# Altium integrated library Mechanical.IntLib: 44 symbols
Pins are listed as number, name and electrical type; pins without a type are passive.

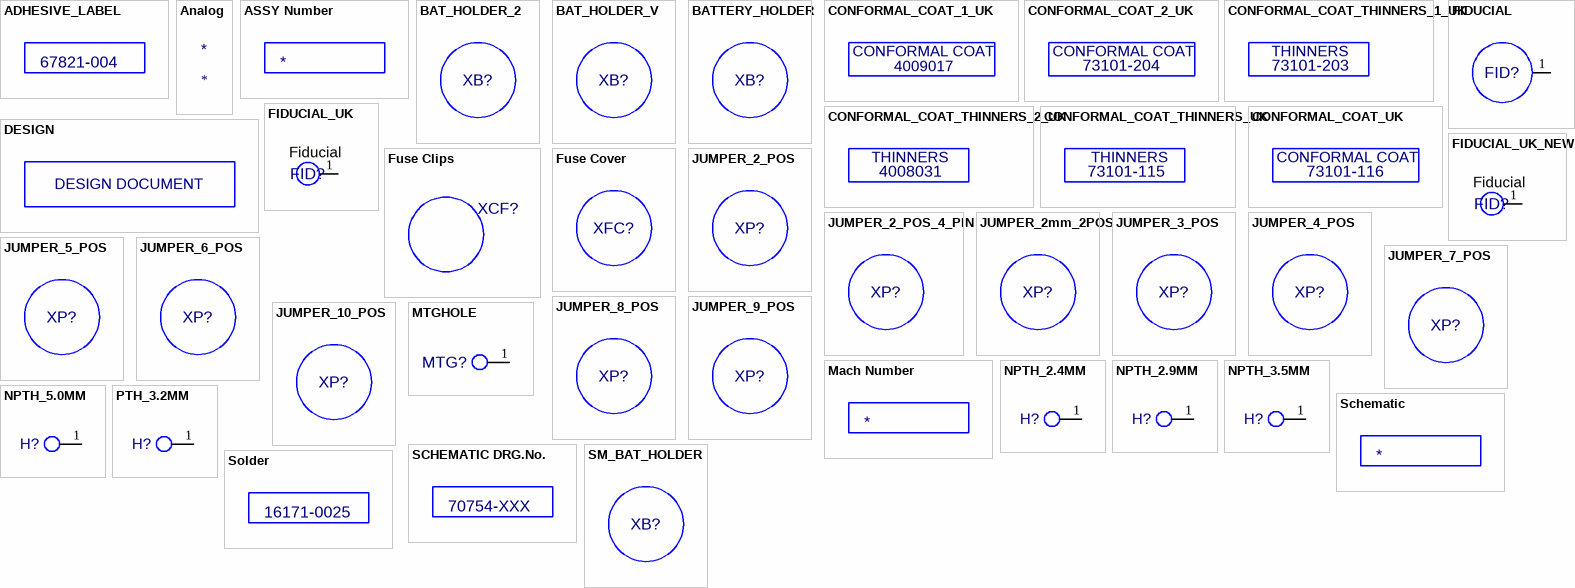
[diagram p0: symbols ADHESIVE_LABEL to Solder]

## ADHESIVE_LABEL
designator ASSY, comment 67821-004  (mechanical)
ADHESIVE LABEL; ECAD_Revision: 1; Librarian: UK; Item: *; Value: *; PartNumber: 67821-004

## Analog
designator *
ECAD_Revision: 1; Librarian: US
footprint Analog

## ASSY Number
designator ASSY  (mechanical)
PC Board ASSY,; ECAD_Revision: 1; Librarian: US; Item: *; Value: *; PartNumber: *

## BAT_HOLDER_2
designator XB?, comment AWT25-500104  (value not drawn)  (mechanical)
Holder Coin Cell 20mm DIA; ECAD_Revision: 2; Librarian: US; PartNumber: AWT25-500104; Item: *; HelpURL: K:\ACCELEDA\PDF Spec Files\MISS\; Value: *
footprint BAT_HOLDER_2

## BAT_HOLDER_V
designator XB?, comment TMP_US_BAT_HOLDER_V  (value not drawn)  (mechanical)
Battery, Holder; ECAD_Revision: 1; Librarian: US; PartNumber: TMP_US_BAT_HOLDER_V; Item: *; HelpURL: K:\ACCELEDA\PDF Spec Files\Battery\bk-5058.pdf; Value: *
footprint BAT_HOLDER_V (Memory Device BK-5058)

## BATTERY_HOLDER
designator XB?, comment 60112-0017  (value not drawn)
Battery, Holder; ECAD_Revision: 1; Librarian: US; PartNumber: 60112-0017; Item: *; HelpURL: K:\ACCELEDA\PDF Spec Files\MISS\cr2032-bhl2.pdf; Value: *
footprint BATTERY_HOLDER

## CONFORMAL_COAT_1_UK
designator Solder, comment value CONFORMAL COAT  (hidden comment: 4009017)  (mechanical)
CONFORMAL COAT, HUMISEAL X-1136; ECAD_Revision: 1; Librarian: UK; Item: *; PartNumber: 4009017

## CONFORMAL_COAT_2_UK
designator Solder, comment value CONFORMAL COAT  (hidden comment: 73101-204)  (mechanical)
CONFORMAL COAT, HUMISEAL X-1136, ATEX PT2 of 2; ECAD_Revision: 1; Librarian: UK; Item: *; PartNumber: 73101-204

## CONFORMAL_COAT_THINNERS_1_UK
designator Solder, comment value THINNERS  (hidden comment: 73101-203)  (mechanical)
CONFORMAL COAT THINNERS, ATEX PT2 of 2; ECAD_Revision: 1; Librarian: UK; Item: *; PartNumber: 73101-203

## CONFORMAL_COAT_THINNERS_2_UK
designator Solder, comment value THINNERS  (hidden comment: 4008031)  (mechanical)
CONFORMAL COAT THINNERS; ECAD_Revision: 1; Librarian: UK; Item: *; PartNumber: 4008031

## CONFORMAL_COAT_THINNERS_UK
designator Solder, comment value THINNERS  (hidden comment: 73101-115)  (mechanical)
CONFORMAL COAT THINNERS, ATEX PT1 of 2; ECAD_Revision: 1; Librarian: UK; Item: *; PartNumber: 73101-115

## CONFORMAL_COAT_UK
designator Solder, comment value CONFORMAL COAT  (hidden comment: 73101-116)  (mechanical)
CONFORMAL COAT, HUMISEAL X-1136, ATEX PT1 of 2; ECAD_Revision: 1; Librarian: UK; Item: *; PartNumber: 73101-116

## DESIGN
designator DOC?  (graphical)
DESIGN; ECAD_Revision: 1; Librarian: US; HelpURL: K:\ACCELEDA\Design Document\
text: DESIGN DOCUMENT

## FIDUCIAL
designator FID?  (value not drawn)  (no BOM)
FIDUCIAL; ECAD_Revision: 2; Librarian: UK; Item: *; Value: *; PartNumber: *
footprint FIDUCIAL
pins: 1

## FIDUCIAL_UK
designator FID?  (value not drawn)  (no BOM)
FIDUCIAL FOR UK BOARDS; ECAD_Revision: 1; Item: *; Value: *; PartNumber: *; Librarian: UK
footprint FIDUCIAL_AP (Fiducial as per AP-3-5057)
pins: 1
text: Fiducial

## FIDUCIAL_UK_NEW
designator FID?  (value not drawn)  (no BOM)
FIDUCIAL FOR UK BOARDS; ECAD_Revision: 1; Item: *; Value: *; PartNumber: *; Librarian: UK
footprint FIDUCIAL_AP_NEW (Fiducial as per AP-3-5057. Rev. 1)
pins: 1
text: Fiducial

## Fuse Clips
designator XCF?, comment 17723-0018  (value not drawn)  (mechanical)
Fuse, Clip 3AG .25 DIA; ECAD_Revision: 1; Librarian: US; Value: need two; PartNumber: 17723-0018; Item: *; Power Rating: 3AG

## Fuse Cover
designator XFC?, comment 22350-0018  (value not drawn)  (mechanical)
Cover, Fuse .25 x 1.25 Fuse; PartNumber: 22350-0018; Item: *; HelpURL: K:\ACCELEDA\PDF Spec Files\MISS\; Value: *
footprint Fuse Cover (Cover for .25 x 1.25 fuse)

## JUMPER_2_POS
designator XP?, comment 18015-0013  (value not drawn)  (mechanical)
Jumper, 2 Position Shunt; ECAD_Revision: 1; Librarian: US; PartNumber: 18015-0013; Item: *; Value: *
footprint JUMPER_2_POS

## JUMPER_2_POS_4_PIN
designator XP?, comment 52601-0012  (value not drawn)  (mechanical)
Jumper, 2 Position Shunt; ECAD_Revision: 1; Librarian: US; PartNumber: 52601-0012; Item: *; Value: *
footprint JUMPER_2_POS_4_PIN

## JUMPER_2mm_2POS
designator XP?, comment AWT25-500173  (value not drawn)  (mechanical)
Jumper, 2mm 2 Position Shunt; ECAD_Revision: 1; Librarian: US; PartNumber: AWT25-500173; Item: *; Value: *
footprint JUMPER_2mm_2POS

## JUMPER_3_POS
designator XP?, comment 52601-0020  (value not drawn)  (mechanical)
Jumper, 3 Position Shunt; ECAD_Revision: 1; Librarian: US; PartNumber: 52601-0020; Item: *; Value: *
footprint JUMPER_3_POS

## JUMPER_4_POS
designator XP?, comment 52601-0038  (value not drawn)  (mechanical)
Jumper, 4 Position Shunt; ECAD_Revision: 1; Librarian: US; PartNumber: 52601-0038; Item: *; Value: *
footprint JUMPER_4_POS

## JUMPER_5_POS
designator XP?, comment 52601-0046  (value not drawn)  (mechanical)
Jumper, 5 Position Shunt; ECAD_Revision: 1; Librarian: US; PartNumber: 52601-0046; Item: *; Value: *
footprint JUMPER_5_POS

## JUMPER_6_POS
designator XP?, comment 52601-0053  (value not drawn)  (mechanical)
Jumper, 6 Position Shunt; ECAD_Revision: 1; Librarian: US; PartNumber: 52601-0053; Item: *; Value: *
footprint JUMPER_6_POS

## JUMPER_7_POS
designator XP?, comment 52601-0061  (value not drawn)  (mechanical)
Jumper, 7 Position Shunt; ECAD_Revision: 1; Librarian: US; PartNumber: 52601-0061; Item: *; Value: *
footprint JUMPER_7_POS

## JUMPER_8_POS
designator XP?, comment 52601-0079  (value not drawn)  (mechanical)
Jumper, 8 Position Shunt; ECAD_Revision: 1; Librarian: US; PartNumber: 52601-0079; Item: *; Value: *
footprint JUMPER_8_POS

## JUMPER_9_POS
designator XP?, comment 52601-0087  (value not drawn)  (mechanical)
Jumper, 9 Position Shunt; ECAD_Revision: 1; Librarian: US; PartNumber: 52601-0087; Item: *; Value: *
footprint JUMPER_9_POS

## JUMPER_10_POS
designator XP?, comment 52601-0095  (value not drawn)  (mechanical)
Jumper, 10 Position Shunt; ECAD_Revision: 1; Librarian: US; PartNumber: 52601-0095; Item: *; Value: *
footprint JUMPER_10_POS

## Mach Number
designator MACH  (mechanical)
PC Board Machiniing,; ECAD_Revision: 1; Librarian: US; Item: *; Value: *; PartNumber: *

## MTGHOLE
designator MTG?  (value not drawn)  (no BOM)
MTGHOLE; ECAD_Revision: 2; Librarian: UK; Power Rating: *; Item: *; Value: *; PartNumber: *
footprint MTGHOLE
pins: 1

## NPTH_2.4MM
designator H?, comment none  (value not drawn)  (no BOM)
Plated mounting hole for M2 thread; ECAD_Revision: 1; Librarian: UK; Item: *; Value: *; PartNumber: none
footprint NPTH_2.4mm (Mounting Hole. Rev.1)
pins: 1

## NPTH_2.9MM
designator H?, comment none  (value not drawn)  (no BOM)
Plated mounting hole for M2.5 thread; ECAD_Revision: 1; Librarian: UK; Item: *; Value: *; PartNumber: none
footprint NPTH_2.9mm (Mounting Hole. Rev.1)
pins: 1

## NPTH_3.5MM
designator H?, comment none  (value not drawn)  (no BOM)
Non-plated mounting hole for M3 thread; ECAD_Revision: 2; Librarian: UK; Item: *; Value: *; PartNumber: none
footprint NPTH_3_5MM (Mounting Hole. Rev.2)
pins: 1

## NPTH_5.0MM
designator H?, comment none  (value not drawn)  (no BOM)
Non-Plated mounting hole 5mm diameter; ECAD_Revision: 1; Librarian: UK; Item: *; Value: *; PartNumber: none
footprint NPTH_5.0mm (Mounting Hole 5mm Rev.1)
pins: 1

## PTH_3.2MM
designator H?, comment none  (value not drawn)  (no BOM)
Plated mounting hole for M3 thread; ECAD_Revision: 1; Librarian: UK; Item: *; Value: *; PartNumber: none
footprint PTH_3.2mm (Mounting Hole. Rev.1)
pins: 1

## Schematic
designator SCH  (mechanical)
Schematic,; ECAD_Revision: 1; Librarian: US; Item: *; Value: *; PartNumber: *

## SCHEMATIC DRG.No.
designator SCM, comment 70754-XXX  (mechanical)
REMOVED APPROPRIATE DRG. Nos.; ECAD_Revision: 1; Librarian: UK; Item: *; Value: *; PartNumber: 70754-XXX

## SM_BAT_HOLDER
designator XB?, comment 60112-0025  (value not drawn)  (mechanical)
Battery, Holder; ECAD_Revision: 1; Librarian: US; PartNumber: 60112-0025; Item: *; HelpURL: K:\ACCELEDA\PDF Spec Files\MISS\bu2032sm-hd.pdf; Value: *
footprint SM_BAT_HOLDER

## Solder
designator Solder, comment 16171-0025  (mechanical)
Solder; ECAD_Revision: 1; Librarian: US; Item: *; Value: *; PartNumber: 16171-0025

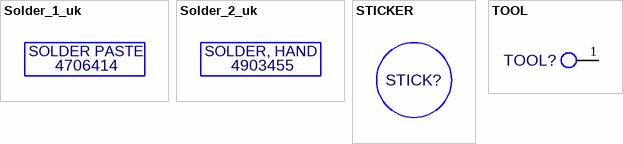
[diagram p1: symbols Solder_1_uk to TOOL]

## Solder_1_uk
designator Solder, comment value SOLDER PASTE  (hidden comment: 4706414)  (mechanical)
Solder, paste, UK; ECAD_Revision: 1; Item: *; Librarian: UK; PartNumber: 4706414

## Solder_2_uk
designator Solder, comment value SOLDER, HAND  (hidden comment: 4903455)  (mechanical)
Solder, hand, UK; ECAD_Revision: 1; Item: *; Librarian: UK; PartNumber: 4903455

## STICKER
designator STICK?, comment 46699-0017  (value not drawn)  (mechanical)
Label, Blank; ECAD_Revision: 1; Librarian: US; Item: *; PartNumber: 46699-0017
footprint STICKER

## TOOL
designator TOOL?, comment none  (value not drawn)  (no BOM)
TOOL; ECAD_Revision: 3; Librarian: UK; Power Rating: *; Item: *; Value: *; PartNumber: none
footprint TOOL (Rev.2 was 'plated')
pins: 1